# EAGLE library part SWITCH-DPDT-THT-RA (library FlashPCB_Switches)
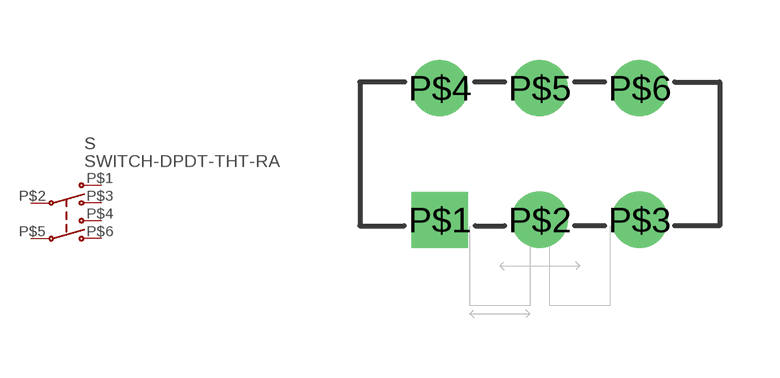
[diagram p5: symbol with the pads of SWITCH-SLIDE-THT-RA-DPDT-JS202011AQN; footprint SWITCH-SLIDE-THT-RA-DPDT-JS202011AQN]

Designator prefix S

## SWITCH-DPDT-THT-RAJS202011AQN  [SWITCH-SLIDE-THT-RA-DPDT-JS202011AQN]
P$1  P$2
P$2  P$1
P$3  P$3
P$4  P$5
P$5  P$4
P$6  P$6

## Footprint SWITCH-SLIDE-THT-RA-DPDT-JS202011AQN (pad centres in mm)
drill 0.9 square: P$1 -2.5,-1.65
drill 0.9: P$2 0,-1.65; P$3 2.5,-1.65; P$4 -2.5,1.65; P$5 0,1.65; P$6 2.5,1.65